# Altium schematic symbol library FD6288Q.SchLib: 1 symbol
Pins are listed as number, name and electrical type; pins without a type are passive.

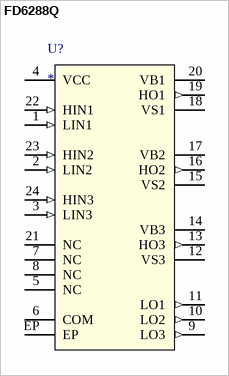
[diagram p0: symbol FD6288Q]

## FD6288Q
designator U?
pins: 1 LIN1 (in), 2 LIN2 (in), 3 LIN3 (in), 4 VCC (power), 5 NC, 6 COM, 7 NC, 8 NC, 9 LO3 (out), 10 LO2 (out), 11 LO1 (out), 12 VS3, 13 HO3 (out), 14 VB3, 15 VS2, 16 HO2 (out), 17 VB2, 18 VS1, 19 HO1 (out), 20 VB1, 21 NC, 22 HIN1 (in), 23 HIN2 (in), 24 HIN3 (in), EP (power)